# Altium schematic symbol library 4.5 - 电子管.SchLib: 14 symbols
Pins are listed as number, name and electrical type; pins without a type are passive.

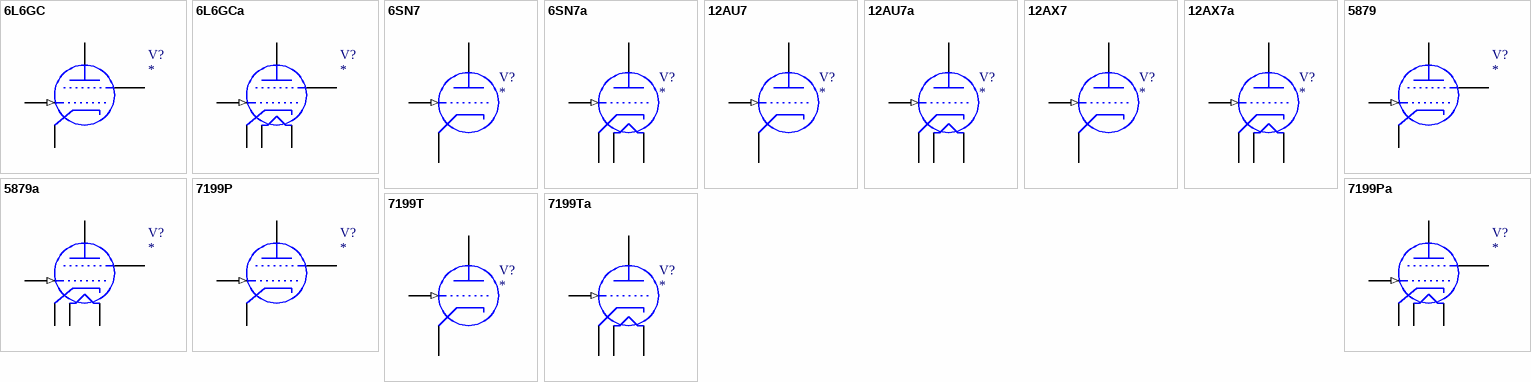
[diagram p0: symbols 6L6GC to 7199Ta]

## 6L6GC
designator V?
Tetrode; 封装库来自淘宝卖家 ID：黄晶宝石: 其他店铺购入均为盗版，不享受售后技术支持服务，请立即申请退款
simulation model 6L6GC (SUNBCKT)
pins: 1 P, 2 SCRG, 3 CTLG (in), 4 K

## 6L6GCa
designator V?
Tetrode
simulation model 6L6GCa (SUNBCKT)
pins: 1 P, 2 SCRG, 3 CTLG (in), 4 K, 5 Hi, 6 H2

## 6SN7
designator V?
Triode
simulation model 6SN7 (SUNBCKT)
pins: 1 P, 2 G (in), 3 K

## 6SN7a
designator V?
Triode
simulation model 6SN7a (SUNBCKT)
pins: 1 P, 2 G (in), 3 K, 4 H1, 5 H2

## 12AU7
designator V?
Triode
simulation model 12AU7 (SUNBCKT)
pins: 1 P, 2 G (in), 3 K

## 12AU7a
designator V?
Triode
simulation model 12AU7a (SUNBCKT)
pins: 1 P, 2 G (in), 3 K, 4 H1, 5 H2

## 12AX7
designator V?
Triode; 技术支持，联系售后: 淘宝ID:黄晶宝石
simulation model 12AX7 (SUNBCKT)
pins: 1 P, 2 G (in), 3 K

## 12AX7a
designator V?
Triode; 技术支持，联系售后: https://shop463601444.taobao.com
simulation model 12AX7a (SUNBCKT)
pins: 1 P, 2 G (in), 3 K, 4 H1, 5 H2

## 5879
designator V?
Tetrode; 技术支持，联系售后: https://shop463601444.taobao.com
simulation model 5879 (SUNBCKT)
pins: 1 P, 2 SCRG, 3 CTLG (in), 4 K

## 5879a
designator V?
Tetrode; 技术支持，联系售后: https://shop463601444.taobao.com
simulation model 5879a (SUNBCKT)
pins: 1 P, 2 SCRG, 3 CTLG (in), 4 K, 5 Hi, 6 H2

## 7199P
designator V?
Tetrode; 技术支持，联系售后: https://shop463601444.taobao.com
simulation model 7199P (SUNBCKT)
pins: 1 P, 2 SCRG, 3 CTLG (in), 4 K

## 7199Pa
designator V?
Tetrode; 技术支持，联系售后: https://shop463601444.taobao.com
simulation model 7199Pa (SUNBCKT)
pins: 1 P, 2 SCRG, 3 CTLG (in), 4 K, 5 Hi, 6 H2

## 7199T
designator V?
Triode; 技术支持，联系售后: https://shop463601444.taobao.com
simulation model 7199T (SUNBCKT)
pins: 1 P, 2 G (in), 3 K

## 7199Ta
designator V?
Triode; 技术支持，联系售后: https://shop463601444.taobao.com
simulation model 7199Ta (SUNBCKT)
pins: 1 P, 2 G (in), 3 K, 4 H1, 5 H2